# EAGLE library part AS3364 (library jason_eagle6)
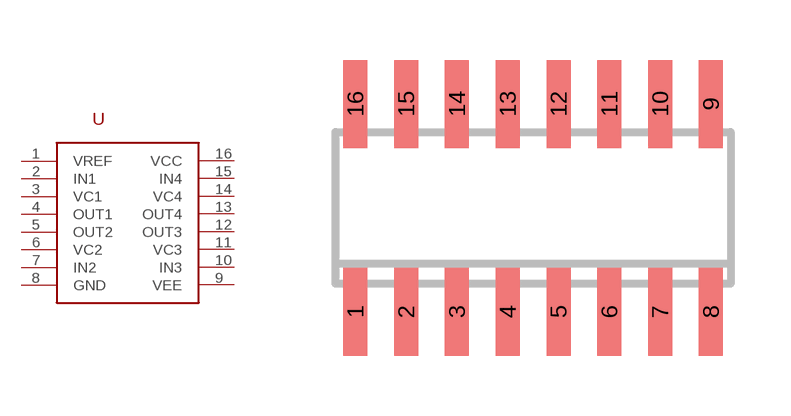
[diagram p69: symbol with the pads of SO16; footprint SO16]

Designator prefix -

## AS3364  [SO16]
1  VREF
2  IN1
3  VC1
4  OUT1
5  OUT2
6  VC2
7  IN2
8  GND
9  VEE
10  IN3
11  VC3
12  OUT3
13  OUT4
14  VC4
15  IN4
16  VCC

## Footprint SO16 (pad centres in mm)
SMALL OUTLINE INTEGRATED CIRCUIT body 3.9 mm/JEDEC MS-012AC
smd 0.6 x 2.2: 1 -4.445,-2.6; 2 -3.175,-2.6; 3 -1.905,-2.6; 4 -0.635,-2.6; 5 0.635,-2.6; 6 1.905,-2.6; 7 3.175,-2.6; 8 4.445,-2.6; 9 4.445,2.6; 10 3.175,2.6; 11 1.905,2.6; 12 0.635,2.6; 13 -0.635,2.6; 14 -1.905,2.6; 15 -3.175,2.6; 16 -4.445,2.6